# Altium schematic symbol library Macronix.SchLib: 1 symbol
Pins are listed as number, name and electrical type; pins without a type are passive.

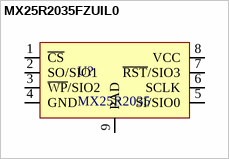
[diagram p0: symbol MX25R2035FZUIL0]

## MX25R2035FZUIL0
designator U?, comment MX25R2035
FLASH - NOR Memory IC 2Mb (256K x 8) SPI - Quad I/O 33MHz  8-USON (2x3); Part Number: MX25R2035FZUIL0; Manufacturer: Macronix; Voltage: 1.65V ~ 3.6V; Value: MX25R2035; Device Package: 8-UFDFN Exposed Pad; Mounting Type: SMT; Operating Temperature: -40°C ~ 85°C (TA); Size / Dimension: *; Thickness (Max): *; Distributor link 1: https://www.digikey.com/en/products/detail/macronix/MX25R2035FZUIL0/5957727; Distributor link 2: *; Distributor link 3: *; Link: https://www.macronix.com/Lists/Datasheet/Attachments/7478/MX25R2035F,%20Wide%20Range,%202Mb,%20v1.6.pdf
footprint USON-8L-2x3x0.6mm
pins: 1 ~{CS}, 2 SO/SIO1, 3 ~{WP}/SIO2, 4 GND, 5 SI/SIO0, 6 SCLK, 7 ~{RST}/SIO3, 8 VCC, 9 PAD